# EAGLE library part AD822 (library IC_Linear)
FET-Input Operational Amplifier Reference Datasheet <https://www.analog.com/media/en/technical-documentation/data-sheets/ad822.pdf>
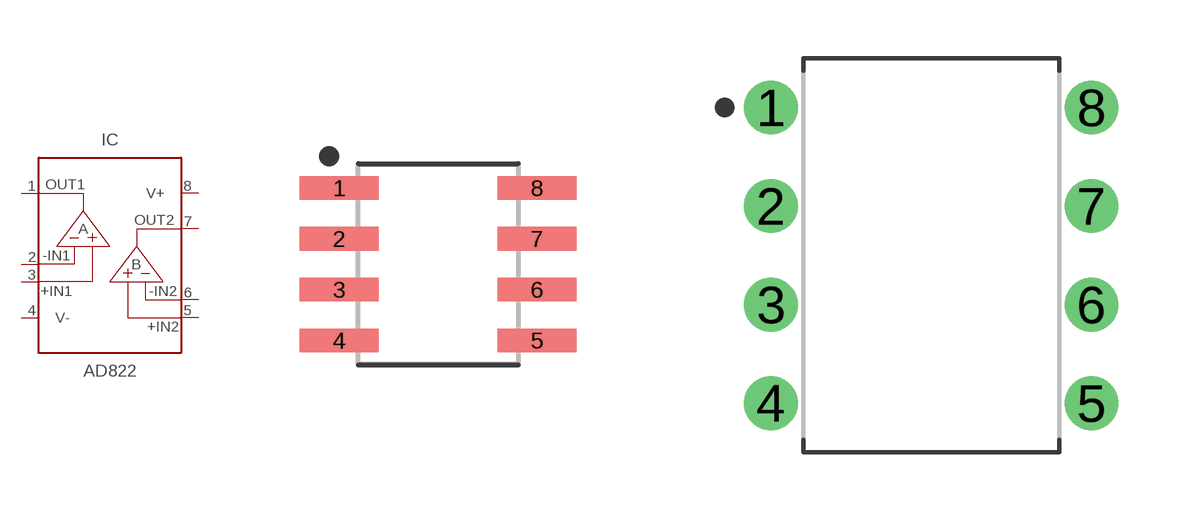
[diagram p13: symbol with the pads of SOIC127P600X175-8N; footprints SOIC127P600X175-8N, DIP826W53P254L959H508Q8B]

Designator prefix IC

## AD822_SOIC (CATEGORY: Amplifier; DESCRIPTION: General Purpose Amplifier 2 Circuit Rail-to-Rail 8-PDIP; MANUFACTURER: Analog Devices Inc.; MPN: AD822*; OPERATING_TEMP: -40°C ~ 85°C; PART_STATUS: Active; ROHS_COMPLIANT: ROHS3 Compliant; SERIES: AD822; SUB-CATEGORY: Op Amps; TYPE: General Purpose; VALUE: AD822)  [SOIC127P600X175-8N]
1  OUT1  pas
2  -IN1  in
3  +IN1  in
4  V-
5  +IN2  pas
6  -IN2  pas
7  OUT2  pas
8  V+

## AD822_DIP (CATEGORY: Amplifier; DESCRIPTION: General Purpose Amplifier; MANUFACTURER: Analog Devices Inc.; MPN: AD822*; OPERATING_TEMP: -40°C ~ 85°C; PART_STATUS: Active; ROHS_COMPLIANT: ROHS3 Compliant; SERIES: AD822; SUB-CATEGORY: OpAmp; TYPE: General Purpose; VALUE: AD822)  [DIP826W53P254L959H508Q8B]
Pads as for SOIC127P600X175-8N

## Footprint SOIC127P600X175-8N (pad centres in mm)
8-SOIC, 1.27 mm pitch, 6.00 mm span, 4.90 X 3.90 X 1.75 mm body 8-pin SOIC package with 1.27 mm pitch, 6.00 mm span with body size 4.90 X 3.90 X 1.75 mm
smd 1.969 x 0.592: 1 -2.474,1.905; 2 -2.474,0.635; 3 -2.474,-0.635; 4 -2.474,-1.905; 5 2.474,-1.905; 6 2.474,-0.635; 7 2.474,0.635; 8 2.474,1.905

## Footprint DIP826W53P254L959H508Q8B (pad centres in mm)
8-DIP, 2.54 mm (0.10 in) pitch, 8.26 mm (0.33 in) span, 9.59 X 6.35 X 5.08 mm body 8-pin DIP package with 2.54 mm (0.10 in) pitch, 8.26 mm (0.33 in) span with body size 9.59 X 6.35 X 5.08 mm
drill 0.786 pad 1.386: 1 -4.13,3.81; 2 -4.13,1.27; 3 -4.13,-1.27; 4 -4.13,-3.81; 5 4.13,-3.81; 6 4.13,-1.27; 7 4.13,1.27; 8 4.13,3.81